# EAGLE library part FIN1101 (library fairchild-semiconductor)
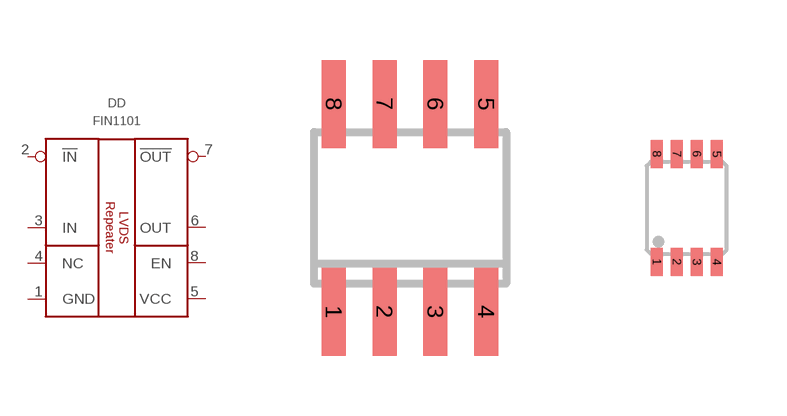
[diagram p3: symbol with the pads of SOIC8; footprints SOIC8, US8]

Designator prefix DD

## FIN1101M  [SOIC8]
1  GND  pwr
2  !IN  in
3  IN  in
4  NC  nc
5  VCC  pwr
6  OUT  out
7  !OUT  out
8  EN  in

## FIN1101MX  [SOIC8]
Pads as for SOIC8

## FIN1101K8X  [US8]
1  !IN  in
2  GND  pwr
3  EN  in
4  NC  nc
5  !OUT  out
6  OUT  out
7  VCC  pwr
8  IN  in

## Footprint SOIC8 (pad centres in mm)
Small Outline IC
smd 0.6 x 2.2: 1 -1.905,-2.6; 2 -0.635,-2.6; 3 0.635,-2.6; 4 1.905,-2.6; 5 1.905,2.6; 6 0.635,2.6; 7 -0.635,2.6; 8 -1.905,2.6

## Footprint US8 (pad centres in mm)
smd 0.3 x 0.7: 1 -0.75,-1.35; 2 -0.25,-1.35; 3 0.25,-1.35; 4 0.75,-1.35; 5 0.75,1.35; 6 0.25,1.35; 7 -0.25,1.35; 8 -0.75,1.35